# Altium schematic symbol library DeltaX_basketball_mikro.SCHLIB: 15 symbols
Pins are listed as number, name and electrical type; pins without a type are passive.

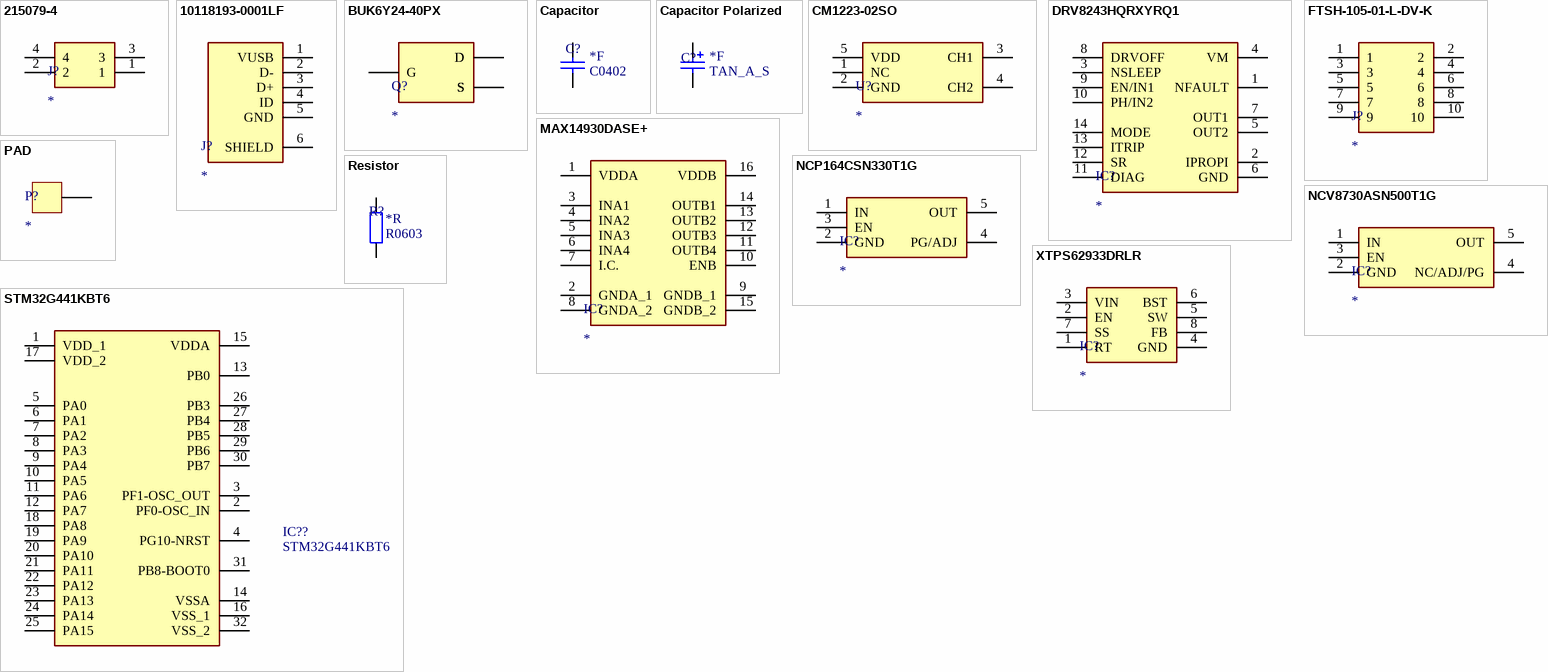
[diagram p0: symbols 215079-4 to XTPS62933DRLR]

## 215079-4
designator J?
Connector; Manufacturer_Name: TE Connectivity; Manufacturer_Part_Number: 215079-4; Datasheet Link: https://www.te.com/commerce/DocumentDelivery/DDEController?Action=srchrtrv&DocNm=215079&DocType=Customer+Drawing&DocLang=English; Height: 4.2mm; Mouser Part Number: 571-215079-4; Mouser Price/Stock: https://www.mouser.co.uk/ProductDetail/TE-Connectivity/215079-4?qs=O3N86PA0UL%252BdoZEVcFx8sQ%3D%3D; Arrow Part Number: 215079-4; Arrow Price/Stock: https://www.arrow.com/en/products/215079-4/te-connectivity
footprint 2150794
pins: 1, 2, 3, 4

## 10118193-0001LF
designator J?
Connector; Manufacturer_Name: AMPHENOL COMMUNICATION SOLUTIONS; Manufacturer_Part_Number: 10118193-0001LF; Datasheet Link: https://cdn.amphenol-icc.com/media/wysiwyg/files/drawing/10118193.pdf; Height: 3.3mm
footprint 101181930001LF
pins: 1 VUSB, 2 D-, 3 D+, 4 ID, 5 GND, 6 SHIELD

## BUK6Y24-40PX
designator Q?
MOSFET (P-Channel); Manufacturer_Name: Nexperia; Manufacturer_Part_Number: BUK6Y24-40PX; Datasheet Link: https://assets.nexperia.com/documents/data-sheet/BUK6Y24-40P.pdf; Height: 1.2mm; Mouser Part Number: 771-BUK6Y24-40PX; Mouser Price/Stock: https://www.mouser.co.uk/ProductDetail/Nexperia/BUK6Y24-40PX?qs=vmHwEFxEFR8tyd2WwTEwBg%3D%3D; Arrow Part Number: BUK6Y24-40PX; Arrow Price/Stock: https://www.arrow.com/en/products/buk6y24-40px/nexperia?region=nac
footprint BUK6Y2440PX
pins: 1 S, 2 S, 3 S, 4 G, 5 D, 6 D

## Capacitor
designator C?  Capacitance: *F
Ceramic capacitor; Type: MLCC; Voltage rating: *V; ComponentLinknDescription: Datasheet; Characteristic: *; Manufacturer: *; ComponentLinknURL: *
footprint C0402 (0402 ceramic capacitor)
footprint C0603 (0603 ceramic capacitor)
footprint C0805 (0805 ceramic capacitor)
footprint C1206 (1206 ceramic capacitor)
footprint C1210 (1210 capacitor)
footprint C1812 (1812 capacitor)
pins: 1, 2

## Capacitor Polarized
designator C?  Capacitance: *F
Polarized Capacitor; ComponentLinknDescription: Datasheet; Voltage rating: *V; ESR: *R; ComponentLinknURL: *; Temp MAX: *C; Temp MIN: *C; Manufacturer: *
footprint TAN_A_S (Capacitor, SM Tantalum; Body 3.2 x 1.6 mm (LxW typ))
footprint TAN_C_U/W (Capacitor, SM Tantalum; Body 6.0 x 3.2 mm (LxW typ))
footprint TAN_B_T (Capacitor, SM Tantalum; Body 3.5 x 2.8 mm (LxW typ))
footprint TAN_R (Capacitor, SM Tantalum; Body 2.0 x 1.25 mm (LxW typ))
footprint TAN_V/Y_D (Capacitor, SM Tantalum; Body 7.3 x 4.3 mm (LxW typ))
footprint TAN_X/E (Capacitor, SM Tantalum; Body 7.3 x 4.3 mm (LxW typ))
footprint AL_G
footprint AL_B (Aluminum Electrolytic Capacitor, Body 4,50x4,50x5,40mm,)
footprint AL_C (Aluminum Electrolytic Capacitor, Body 5,30x5,30x5,40mm)
footprint AL_D (Aluminum Electrolytic Capacitor, Body 6,60x6,60x5,40mm)
footprint AL_D8 (Aluminum Electrolytic Capacitor, Body 6,60x6,60x8,00mm)
footprint AL_E (Aluminum Electrolytic Capacitor, Body 8,30x8,30x6,50mm)
footprint AL_F (Aluminum Electrolytic Capacitor, Body 8,30x8,30x10,50mm)
footprint 7343-31 (Capacitor, SM Tantalum; Body 4.3 x 7.3 mm (LxW typ))
pins: 1, 2
1 alternate drawing of the same symbol

## CM1223-02SO
designator U?
TVS diodes 2-ch; Manufacturer_Name: Texas Instruments; Manufacturer_Part_Number: INA139NA; Datasheet Link: https://componentsearchengine.com/Datasheets/2/INA139NA.pdf; Height: 1.45mm
footprint SOT95P280X145-5N
pins: 1 NC, 2 GND, 3 CH1, 4 CH2, 5 VDD

## DRV8243HQRXYRQ1
designator IC?
Integrated Circuit; Manufacturer_Name: Texas Instruments; Manufacturer_Part_Number: DRV8243HQRXYRQ1; Datasheet Link: https://www.ti.com/lit/ds/symlink/drv8243-q1.pdf?HQS=dis-mous-null-mousermode-dsf-pf-null-wwe&ts=1659353397059&ref_url=https%253A%252F%252Fwww.mouser.com%252F; Height: 1mm
footprint DRV8243HQRXYRQ1
pins: 1 NFAULT, 2 IPROPI, 3 NSLEEP, 4 VM, 5 OUT2, 6 GND, 7 OUT1, 8 DRVOFF, 9 EN/IN1, 10 PH/IN2, 11 DIAG, 12 SR, 13 ITRIP, 14 MODE

## FTSH-105-01-L-DV-K
designator J?
Connector; Manufacturer_Name: SAMTEC; Manufacturer_Part_Number: FTSH-105-01-L-DV-K; Datasheet Link: https://www.arrow.com/en/products/ftsh-105-01-l-dv-k/samtec; Height: 6.1mm; Mouser Part Number: 200-FTSH10501LDVK; Mouser Price/Stock: https://www.mouser.co.uk/ProductDetail/Samtec/FTSH-105-01-L-DV-K?qs=%252B5JSS813miOqo3Vy%252BvhCFg%3D%3D; Arrow Part Number: FTSH-105-01-L-DV-K; Arrow Price/Stock: https://www.arrow.com/en/products/ftsh-105-01-l-dv-k/samtec?region=europe
footprint FTSH10501LDVK
pins: 1, 2, 3, 4, 5, 6, 7, 8, 9, 10

## MAX14930DASE+
designator IC?
Integrated Circuit; Manufacturer_Name: Maxim Integrated; Manufacturer_Part_Number: MAX14930EASE+; Datasheet Link: https://datasheets.maximintegrated.com/en/ds/MAX14130-MAX14932.pdf; Height: 1.75mm; Mouser Part Number: 700-MAX14930EASE+; Mouser Price/Stock: https://www.mouser.co.uk/ProductDetail/Maxim-Integrated/MAX14930EASE%2b?qs=AAveGqk956E0OaZbIR%2FI4w%3D%3D
footprint SOIC127P600X175-16N
pins: 1 VDDA, 2 GNDA_1, 3 INA1, 4 INA2, 5 INA3, 6 INA4, 7 I.C., 8 GNDA_2, 9 GNDB_1, 10 ENB, 11 OUTB4, 12 OUTB3, 13 OUTB2, 14 OUTB1, 15 GNDB_2, 16 VDDB

## NCP164CSN330T1G
designator IC?
Integrated Circuit; Manufacturer_Name: onsemi; Manufacturer_Part_Number: NCP164CSN330T1G; Datasheet Link: https://componentsearchengine.com/Datasheets/2/NCP164CSN330T1G.pdf; Height: 1.1mm; Mouser Part Number: 863-NCP164CSN330T1G; Mouser Price/Stock: https://www.mouser.co.uk/ProductDetail/onsemi/NCP164CSN330T1G?qs=xZ%2FP%252Ba9zWqbi%2FAyy5UtoRw%3D%3D; Arrow Part Number: NCP164CSN330T1G; Arrow Price/Stock: https://www.arrow.com/en/products/ncp164csn330t1g/on-semiconductor?region=nac
footprint SOT95P275X110-5N
pins: 1 IN, 2 GND, 3 EN, 4 PG/ADJ, 5 OUT

## NCV8730ASN500T1G
designator IC?
Integrated Circuit; Manufacturer_Name: onsemi; Manufacturer_Part_Number: NCV8730ASN500T1G; Datasheet Link: https://www.arrow.com/en/products/ncv8730asn500t1g/on-semiconductor; Height: 1.1mm; Mouser Part Number: 863-NCV8730ASN500T1G; Mouser Price/Stock: https://www.mouser.co.uk/ProductDetail/onsemi/NCV8730ASN500T1G?qs=GedFDFLaBXHk1ABQHGw1TA%3D%3D; Arrow Part Number: NCV8730ASN500T1G; Arrow Price/Stock: https://www.arrow.com/en/products/ncv8730asn500t1g/on-semiconductor
footprint SOT95P275X110-5N
pins: 1 IN, 2 GND, 3 EN, 4 NC/ADJ/PG, 5 OUT

## PAD
designator P?
footprint PAD
pins: 1 PAD

## Resistor
designator R?, comment *R
Resistor; Precision: *%; Voltage rating: *V; Temp coefficient: *ppm; Power rating: *mW; ComponentLinknDescription: Datasheet; Manufacturer: *; ComponentLinknURL: *; Resistance: *R
footprint R0402 (0402 resistor)
footprint R0603 (0603 resistor)
footprint R0805 (0805 resistor)
footprint R1206 (1206 resistor)
footprint R2512 (2512 resistor)
footprint R0201 (0201 resistor)
footprint R1210 (1210 resistor)
footprint R1812 (1812 resistor)
footprint R2010 (2010 resistor)
footprint R2512 (2512 resistor)
pins: 1, 2

## STM32G441KBT6
designator IC??
Integrated Circuit; Manufacturer_Name: STMicroelectronics; Datasheet Link: https://www.st.com/resource/en/datasheet/stm32g441cb.pdf; Height: 1.6mm; Manufacturer_Part_Number: STM32G441KBT6; Mouser Part Number: 511-STM32G441KBT6; Mouser Price/Stock: https://www.mouser.co.uk/ProductDetail/STMicroelectronics/STM32G441KBT6?qs=uwxL4vQweFMT5Uxfs2PTag%3D%3D
footprint QFP80P900X900X160-32N
pins: 1 VDD_1, 2 PF0-OSC_IN, 3 PF1-OSC_OUT, 4 PG10-NRST, 5 PA0, 6 PA1, 7 PA2, 8 PA3, 9 PA4, 10 PA5, 11 PA6, 12 PA7, 13 PB0, 14 VSSA, 15 VDDA, 16 VSS_1, 17 VDD_2, 18 PA8, 19 PA9, 20 PA10, 21 PA11, 22 PA12, 23 PA13, 24 PA14, 25 PA15, 26 PB3, 27 PB4, 28 PB5, 29 PB6, 30 PB7, 31 PB8-BOOT0, 32 VSS_2

## XTPS62933DRLR
designator IC?
Integrated Circuit; Manufacturer_Name: Texas Instruments; Manufacturer_Part_Number: TPS62933DRLR; Datasheet Link: https://www.ti.com/lit/ds/symlink/tps62933.pdf?ts=1626073394234; Height: 0.6mm; Mouser Part Number: 595-TPS62933DRLR; Mouser Price/Stock: https://www.mouser.co.uk/ProductDetail/Texas-Instruments/TPS62933DRLR?qs=Rp5uXu7WBW9fv47wfQVntQ%3D%3D; Arrow Part Number: TPS62933DRLR; Arrow Price/Stock: https://www.arrow.com/en/products/tps62933drlr/texas-instruments?region=nac
footprint SOTFL50P160X60-8N
pins: 1 RT, 2 EN, 3 VIN, 4 GND, 5 SW, 6 BST, 7 SS, 8 FB